# Altium schematic symbol library kmilo17pet-Maxim_Sensors.SchLib: 1172 symbols (part 45 of 61)
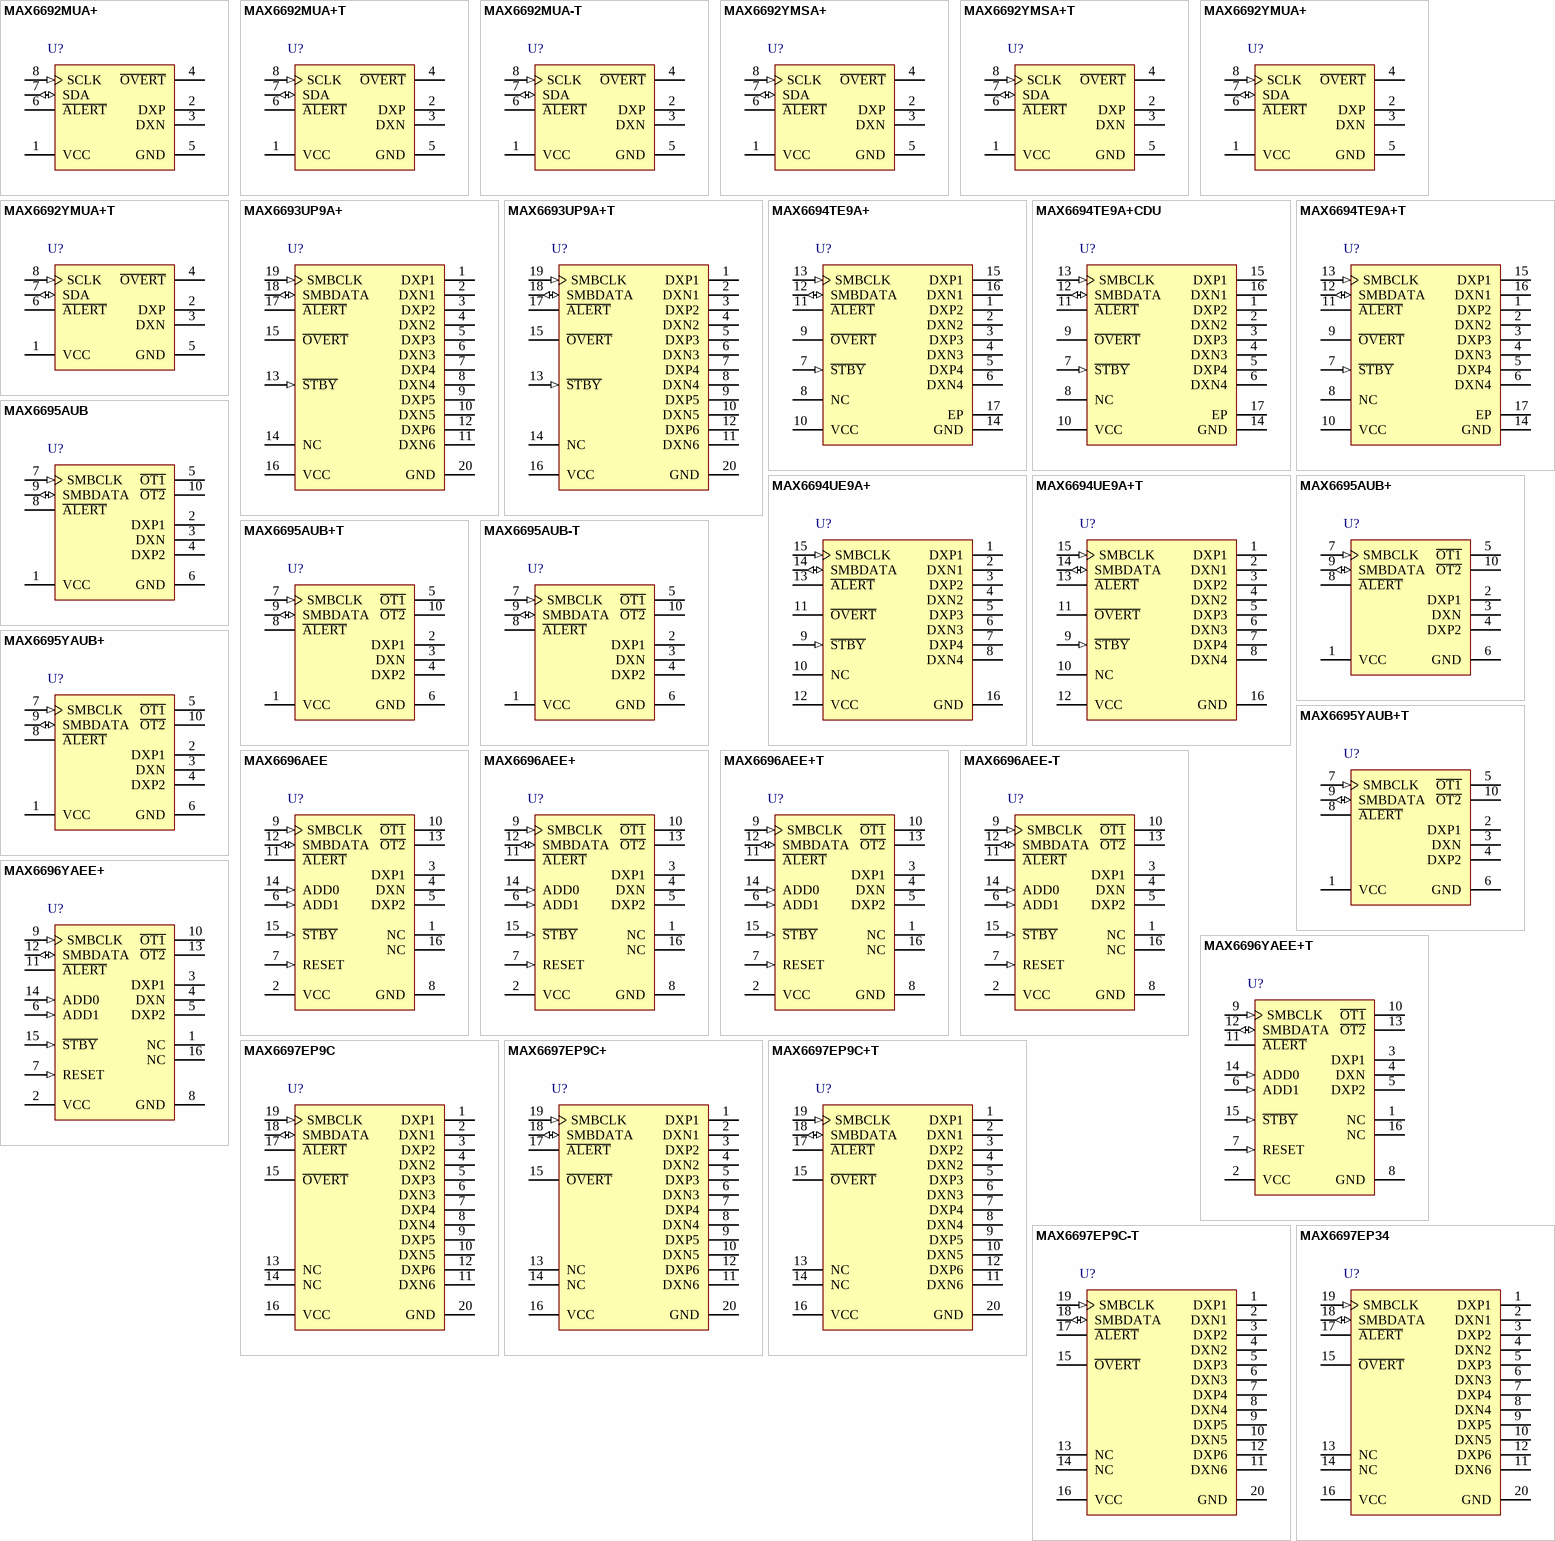
[diagram p77: symbols MAX6692MUA+ to MAX6697EP34]

## MAX6692YMSA+
designator U?
+ / -0.8 degC, SMBus-Compatible Remote / Local Temperature Sensor with Overtemperature Alarm, 10 Bits Temperature Resolution, -55 to 125 degC, 8-Pin SOIC (S8+4), Pb-Free; Generic Part Number: MAX6692; PartNumber: MAX6692YMSA+; Alarm Output: Alert, Overt; Functions: Dual Temperature Alarms, Remote & Local Sensor; Interface: 2-Wire/I2C/SMBus; Parasite Pwr.: No; DatasheetVersion: Rev. 4; PackageVersion: Rev. D, 10/2012; PackageReference: S8+4; PackageDescription: 8-Pin Small-Outline IC, Narrow, Body 3.9 x 4.9 mm, Pitch 1.27 mm; Supplier 1: Digi-Key; Supplier Part Number 1: MAX6692YMSA+-ND; Mounting Technology: Surface Mount; Code_JEDEC: MS-012; ComponentLink1Description: Manufacturer URL; ComponentLink1URL: http://www.maximintegrated.com/; ComponentLink2Description: Datasheet; ComponentLink2URL: http://datasheets.maximintegrated.com/en/ds/MAX6648-MAX6692.pdf; ComponentLink3Description: Package Specification; ComponentLink3URL: http://pdfserv.maximintegrated.com/package_dwgs/21-0041.PDF
footprint MAXM-S8+4_N (SOIC, 8-Leads, Body 4.9x3.9mm, Pitch 1.27mm, IPC Medium Density)
footprint MAXM-S8+4_L (SOIC, 8-Leads, Body 4.9x3.9mm, Pitch 1.27mm, IPC High Density)
footprint MAXM-S8+4_M (SOIC, 8-Leads, Body 4.9x3.9mm, Pitch 1.27mm, IPC Low Density)
pins: 1 VCC (power) "Supply Voltage Input, 3V to 5.5V. Bypass VCC to GND with a 0.1uF capacitor. A 200ohm series resistor is recommended but not required for additional noise filtering", 2 DXP "Combined Remote-Diode Current Source and A/D Positive Input for Remote-Diode Channel. DO NOT LEAVE DXP UNCONNECTED; connect DXP to DXN if no remote diode is used. Place a 2200pF capacitor between DXP and DXN for noise (See Datasheet)", 3 DXN "Combined Remote-Diode Current Sink and A/D Negative Input. DXN is internally connected to ground.", 4 ~{OVERT} (oc) "Overtemperature Alert/Interrupt Output, Open Drain. O\V\E\R\T\ is logic low when the temperature is above the software-programmed threshold", 5 GND (power) "Ground", 6 ~{ALERT} (oc) "SMBus Alert (Interrupt) Output, Open Drain. A\L\E\R\T\ asserts when temperature exceeds limits (high or low temperature). A\L\E\R\T\ stays asserted until acknowledged by either reading the status register or by successfully (See Datasheet)", 7 SDA (io) "SMBus Serial-Data Input/Output, Open Drain", 8 SCLK (in) "SMBus Serial-Clock Input"

## MAX6692YMSA+T
designator U?
+ / -0.8 degC, SMBus-Compatible Remote / Local Temperature Sensor with Overtemperature Alarm, 10 Bits Temperature Resolution, -55 to 125 degC, 8-Pin SOIC (S8+4), Pb-Free, Tape and Reel; Generic Part Number: MAX6692; PartNumber: MAX6692YMSA+T; Alarm Output: Alert, Overt; Functions: Dual Temperature Alarms, Remote & Local Sensor; Interface: 2-Wire/I2C/SMBus; Parasite Pwr.: No; DatasheetVersion: Rev. 4; PackageVersion: Rev. D, 10/2012; PackageReference: S8+4; PackageDescription: 8-Pin Small-Outline IC, Narrow, Body 3.9 x 4.9 mm, Pitch 1.27 mm; Supplier 1: Digi-Key; Supplier Part Number 1: MAX6692YMSA+T-ND; Packing: Tape and Reel; Mounting Technology: Surface Mount; Code_JEDEC: MS-012; ComponentLink1Description: Manufacturer URL; ComponentLink1URL: http://www.maximintegrated.com/; ComponentLink2Description: Datasheet; ComponentLink2URL: http://datasheets.maximintegrated.com/en/ds/MAX6648-MAX6692.pdf; ComponentLink3Description: Package Specification; ComponentLink3URL: http://pdfserv.maximintegrated.com/package_dwgs/21-0041.PDF
footprint MAXM-S8+4_N (SOIC, 8-Leads, Body 4.9x3.9mm, Pitch 1.27mm, IPC Medium Density)
footprint MAXM-S8+4_L (SOIC, 8-Leads, Body 4.9x3.9mm, Pitch 1.27mm, IPC High Density)
footprint MAXM-S8+4_M (SOIC, 8-Leads, Body 4.9x3.9mm, Pitch 1.27mm, IPC Low Density)
pins: 1 VCC (power) "Supply Voltage Input, 3V to 5.5V. Bypass VCC to GND with a 0.1uF capacitor. A 200ohm series resistor is recommended but not required for additional noise filtering", 2 DXP "Combined Remote-Diode Current Source and A/D Positive Input for Remote-Diode Channel. DO NOT LEAVE DXP UNCONNECTED; connect DXP to DXN if no remote diode is used. Place a 2200pF capacitor between DXP and DXN for noise (See Datasheet)", 3 DXN "Combined Remote-Diode Current Sink and A/D Negative Input. DXN is internally connected to ground.", 4 ~{OVERT} (oc) "Overtemperature Alert/Interrupt Output, Open Drain. O\V\E\R\T\ is logic low when the temperature is above the software-programmed threshold", 5 GND (power) "Ground", 6 ~{ALERT} (oc) "SMBus Alert (Interrupt) Output, Open Drain. A\L\E\R\T\ asserts when temperature exceeds limits (high or low temperature). A\L\E\R\T\ stays asserted until acknowledged by either reading the status register or by successfully (See Datasheet)", 7 SDA (io) "SMBus Serial-Data Input/Output, Open Drain", 8 SCLK (in) "SMBus Serial-Clock Input"

## MAX6692YMUA+
designator U?
+ / -0.8 degC, SMBus-Compatible Remote / Local Temperature Sensor with Overtemperature Alarm, 10 Bits Temperature Resolution, -55 to 125 degC, 8-Pin SOP (U8+1), Pb-Free; Generic Part Number: MAX6692; PartNumber: MAX6692YMUA+; Alarm Output: Alert, Overt; Functions: Dual Temperature Alarms, Remote & Local Sensor; Interface: 2-Wire/I2C/SMBus; Parasite Pwr.: No; DatasheetVersion: Rev. 4; PackageVersion: Rev. L, 08/2009; PackageReference: U8+1; PackageDescription: 8-Pin Micro-MAX, Thin Shrink Small-Outline (U8+1), Body 3 x 3 mm, Pitch 0.65 mm; Supplier 1: Digi-Key; Supplier Part Number 1: MAX6692YMUA+-ND; Mounting Technology: Surface Mount; Code_JEDEC: MO-187; ComponentLink1Description: Manufacturer URL; ComponentLink1URL: http://www.maximintegrated.com/; ComponentLink2Description: Datasheet; ComponentLink2URL: http://datasheets.maximintegrated.com/en/ds/MAX6648-MAX6692.pdf; ComponentLink3Description: Package Specification; ComponentLink3URL: http://pdfserv.maximintegrated.com/package_dwgs/21-0036.PDF
footprint MAXM-U8+1_N (SOP, 8-Leads, Body 3x3mm, Pitch 0.65mm, IPC Medium Density)
footprint MAXM-U8+1_L (SOP, 8-Leads, Body 3x3mm, Pitch 0.65mm, IPC High Density)
footprint MAXM-U8+1_M (SOP, 8-Leads, Body 3x3mm, Pitch 0.65mm, IPC Low Density)
pins: 1 VCC (power) "Supply Voltage Input, 3V to 5.5V. Bypass VCC to GND with a 0.1uF capacitor. A 200ohm series resistor is recommended but not required for additional noise filtering", 2 DXP "Combined Remote-Diode Current Source and A/D Positive Input for Remote-Diode Channel. DO NOT LEAVE DXP UNCONNECTED; connect DXP to DXN if no remote diode is used. Place a 2200pF capacitor between DXP and DXN for noise (See Datasheet)", 3 DXN "Combined Remote-Diode Current Sink and A/D Negative Input. DXN is internally connected to ground.", 4 ~{OVERT} (oc) "Overtemperature Alert/Interrupt Output, Open Drain. O\V\E\R\T\ is logic low when the temperature is above the software-programmed threshold", 5 GND (power) "Ground", 6 ~{ALERT} (oc) "SMBus Alert (Interrupt) Output, Open Drain. A\L\E\R\T\ asserts when temperature exceeds limits (high or low temperature). A\L\E\R\T\ stays asserted until acknowledged by either reading the status register or by successfully (See Datasheet)", 7 SDA (io) "SMBus Serial-Data Input/Output, Open Drain", 8 SCLK (in) "SMBus Serial-Clock Input"

## MAX6692YMUA+T
designator U?
+ / -0.8 degC, SMBus-Compatible Remote / Local Temperature Sensor with Overtemperature Alarm, 10 Bits Temperature Resolution, -55 to 125 degC, 8-Pin SOP (U8+1), Pb-Free, Tape and Reel; Generic Part Number: MAX6692; PartNumber: MAX6692YMUA+T; Alarm Output: Alert, Overt; Functions: Dual Temperature Alarms, Remote & Local Sensor; Interface: 2-Wire/I2C/SMBus; Parasite Pwr.: No; DatasheetVersion: Rev. 4; PackageVersion: Rev. L, 08/2009; PackageReference: U8+1; PackageDescription: 8-Pin Micro-MAX, Thin Shrink Small-Outline (U8+1), Body 3 x 3 mm, Pitch 0.65 mm; Supplier 1: Digi-Key; Supplier Part Number 1: MAX6692YMUA+T-ND; Packing: Tape and Reel; Mounting Technology: Surface Mount; Code_JEDEC: MO-187; ComponentLink1Description: Manufacturer URL; ComponentLink1URL: http://www.maximintegrated.com/; ComponentLink2Description: Datasheet; ComponentLink2URL: http://datasheets.maximintegrated.com/en/ds/MAX6648-MAX6692.pdf; ComponentLink3Description: Package Specification; ComponentLink3URL: http://pdfserv.maximintegrated.com/package_dwgs/21-0036.PDF
footprint MAXM-U8+1_N (SOP, 8-Leads, Body 3x3mm, Pitch 0.65mm, IPC Medium Density)
footprint MAXM-U8+1_L (SOP, 8-Leads, Body 3x3mm, Pitch 0.65mm, IPC High Density)
footprint MAXM-U8+1_M (SOP, 8-Leads, Body 3x3mm, Pitch 0.65mm, IPC Low Density)
pins: 1 VCC (power) "Supply Voltage Input, 3V to 5.5V. Bypass VCC to GND with a 0.1uF capacitor. A 200ohm series resistor is recommended but not required for additional noise filtering", 2 DXP "Combined Remote-Diode Current Source and A/D Positive Input for Remote-Diode Channel. DO NOT LEAVE DXP UNCONNECTED; connect DXP to DXN if no remote diode is used. Place a 2200pF capacitor between DXP and DXN for noise (See Datasheet)", 3 DXN "Combined Remote-Diode Current Sink and A/D Negative Input. DXN is internally connected to ground.", 4 ~{OVERT} (oc) "Overtemperature Alert/Interrupt Output, Open Drain. O\V\E\R\T\ is logic low when the temperature is above the software-programmed threshold", 5 GND (power) "Ground", 6 ~{ALERT} (oc) "SMBus Alert (Interrupt) Output, Open Drain. A\L\E\R\T\ asserts when temperature exceeds limits (high or low temperature). A\L\E\R\T\ stays asserted until acknowledged by either reading the status register or by successfully (See Datasheet)", 7 SDA (io) "SMBus Serial-Data Input/Output, Open Drain", 8 SCLK (in) "SMBus Serial-Clock Input"

## MAX6693UP9A+
designator U?
7-Channel Precision Temperature Monitor with Beta Compensation, 8, 11 Bits Temperature Resolution, -40 to 125 degC, 20-Pin SOP (U20+2), Pb-Free; Generic Part Number: MAX6693; PartNumber: MAX6693UP9A+; Alarm Output: Alert, Overt; Functions: Beta Compensation, Dual Temperature Alarms, Dual Temperature Sensor, Remote & Local Sensor; Interface: 2-Wire/I2C/SMBus; Parasite Pwr.: No; DatasheetVersion: Rev. 0; PackageVersion: Rev. L, 07/2010; PackageReference: U20+2; PackageDescription: 20-Pin Thin Shrink Small-Outline Package, Body 4.4 x 6.5 mm, Pitch 0.65 mm; Supplier 1: Digi-Key; Supplier Part Number 1: MAX6693UP9A+-ND; Mounting Technology: Surface Mount; Code_JEDEC: MO-153; ComponentLink1Description: Manufacturer URL; ComponentLink1URL: http://www.maximintegrated.com/; ComponentLink2Description: Datasheet; ComponentLink2URL: http://datasheets.maximintegrated.com/en/ds/MAX6693.pdf; ComponentLink3Description: Package Specification; ComponentLink3URL: http://pdfserv.maximintegrated.com/package_dwgs/21-0066.PDF
footprint MAXM-U20+2_N (SOP, 20-Leads, Body 6.5x4.4mm, Pitch 0.65mm, IPC Medium Density)
footprint MAXM-U20+2_L (SOP, 20-Leads, Body 6.5x4.4mm, Pitch 0.65mm, IPC High Density)
footprint MAXM-U20+2_M (SOP, 20-Leads, Body 6.5x4.4mm, Pitch 0.65mm, IPC Low Density)
pins: 1 DXP1 "Combined Current Source and A/D Positive Input for Channel 1 Remote Diode. Connect to the anode of a remote-diode-connected temperature-sensing transistor. Leave floating or connect to VCC if no remote diode is used. Place a (See Datasheet)", 2 DXN1 "Cathode Input for Channel 1 Remote Diode. Connect the cathode of the channel 1 remote-diode-connected transistor to DXN1. Internally connected to GND.", 3 DXP2 "Combined Current Source and A/D Positive Input for Channel 2 Remote Diode. Connect to the anode of a remote-diode-connected temperature-sensing transistor. Leave floating or connect to VCC if no remote diode is used. Place a (See Datasheet)", 4 DXN2 "Cathode Input for Channel 2 Remote Diode. Connect the cathode of the channel 2 remote-diode-connected transistor to DXN2.", 5 DXP3 "Combined Current Source and A/D Positive Input for Channel 3 Remote Diode. Connect to the anode of a remote-diode-connected temperature-sensing transistor. Leave floating or connect to VCC if no remote diode is used. Place a (See Datasheet)", 6 DXN3 "Cathode Input for Channel 3 Remote Diode. Connect the cathode of the channel 3 remote-diode-connected transistor to DXN3.", 7 DXP4 "Combined Current Source and A/D Positive Input for Channel 4 Remote Diode. Connect to the anode of a remote-diode-connected temperature-sensing transistor. Leave floating or connect to VCC if no remote diode is used. Place a (See Datasheet)", 8 DXN4 "Cathode Input for Channel 4 Remote Diode. Connect the cathode of the channel 4 remote-diode-connected transistor to DXN4.", 9 DXP5 "Combined Current Source and A/D Positive Input for Channel 5 Remote Diode. Connect to the anode of a remote-diode-connected temperature-sensing transistor. Leave floating or connect to VCC if no remote diode is used. Place a (See Datasheet)", 10 DXN5 "Cathode Input for Channel 5 Remote Diode. Connect the cathode of the channel 5 remote-diode-connected transistor to DXN5.", 11 DXN6 "Cathode Input for Channel 6 Remote Diode. Connect the cathode of the channel 6 remote-diode-connected transistor to DXN6.", 12 DXP6 "Combined Current Source and A/D Positive Input for Channel 6 Remote Diode. Connect to the anode of a remote-diode-connected temperature-sensing transistor. Leave floating or connect to VCC if no remote diode is used. Place a (See Datasheet)", 13 ~{STBY} (in) "Active-Low Standby Input. Drive S\T\B\Y\ logic-low to place the MAX6636 in standby mode, or logic-high for operate mode. Temperature and threshold data are retained in standby mode.", 14 NC "No Connection. Must be connected to ground.", 15 ~{OVERT} (oc) "Overtemperature Active-Low, Open-Drain Output. O\V\E\R\T\ asserts low when the temperature of channels 1, 4, 5, and 6 exceeds the programmed threshold limit.", 16 VCC (power) "Supply Voltage Input. Bypass to GND with a 0.1µF capacitor.", 17 ~{ALERT} (oc) "SMBus Alert (Interrupt), Active-Low, Open-Drain Output. A\L\E\R\T\ asserts low when the temperature of any channel exceeds the programmed A\L\E\R\T\ threshold.", 18 SMBDATA (io) "SMBus Serial-Data Input/Output. Connect to a pullup resistor.", 19 SMBCLK (in) "SMBus Serial-Clock Input. Connect to a pullup resistor.", 20 GND (power) "Ground"

## MAX6693UP9A+T
designator U?
7-Channel Precision Temperature Monitor with Beta Compensation, 8, 11 Bits Temperature Resolution, -40 to 125 degC, 20-Pin SOP (U20+2), Pb-Free, Tape and Reel; Generic Part Number: MAX6693; PartNumber: MAX6693UP9A+T; Alarm Output: Alert, Overt; Functions: Beta Compensation, Dual Temperature Alarms, Dual Temperature Sensor, Remote & Local Sensor; Interface: 2-Wire/I2C/SMBus; Parasite Pwr.: No; DatasheetVersion: Rev. 0; PackageVersion: Rev. L, 07/2010; PackageReference: U20+2; PackageDescription: 20-Pin Thin Shrink Small-Outline Package, Body 4.4 x 6.5 mm, Pitch 0.65 mm; Supplier 1: Digi-Key; Supplier Part Number 1: MAX6693UP9A+T-ND; Packing: Tape and Reel; Mounting Technology: Surface Mount; Code_JEDEC: MO-153; ComponentLink1Description: Manufacturer URL; ComponentLink1URL: http://www.maximintegrated.com/; ComponentLink2Description: Datasheet; ComponentLink2URL: http://datasheets.maximintegrated.com/en/ds/MAX6693.pdf; ComponentLink3Description: Package Specification; ComponentLink3URL: http://pdfserv.maximintegrated.com/package_dwgs/21-0066.PDF
footprint MAXM-U20+2_N (SOP, 20-Leads, Body 6.5x4.4mm, Pitch 0.65mm, IPC Medium Density)
footprint MAXM-U20+2_L (SOP, 20-Leads, Body 6.5x4.4mm, Pitch 0.65mm, IPC High Density)
footprint MAXM-U20+2_M (SOP, 20-Leads, Body 6.5x4.4mm, Pitch 0.65mm, IPC Low Density)
pins: 1 DXP1 "Combined Current Source and A/D Positive Input for Channel 1 Remote Diode. Connect to the anode of a remote-diode-connected temperature-sensing transistor. Leave floating or connect to VCC if no remote diode is used. Place a (See Datasheet)", 2 DXN1 "Cathode Input for Channel 1 Remote Diode. Connect the cathode of the channel 1 remote-diode-connected transistor to DXN1. Internally connected to GND.", 3 DXP2 "Combined Current Source and A/D Positive Input for Channel 2 Remote Diode. Connect to the anode of a remote-diode-connected temperature-sensing transistor. Leave floating or connect to VCC if no remote diode is used. Place a (See Datasheet)", 4 DXN2 "Cathode Input for Channel 2 Remote Diode. Connect the cathode of the channel 2 remote-diode-connected transistor to DXN2.", 5 DXP3 "Combined Current Source and A/D Positive Input for Channel 3 Remote Diode. Connect to the anode of a remote-diode-connected temperature-sensing transistor. Leave floating or connect to VCC if no remote diode is used. Place a (See Datasheet)", 6 DXN3 "Cathode Input for Channel 3 Remote Diode. Connect the cathode of the channel 3 remote-diode-connected transistor to DXN3.", 7 DXP4 "Combined Current Source and A/D Positive Input for Channel 4 Remote Diode. Connect to the anode of a remote-diode-connected temperature-sensing transistor. Leave floating or connect to VCC if no remote diode is used. Place a (See Datasheet)", 8 DXN4 "Cathode Input for Channel 4 Remote Diode. Connect the cathode of the channel 4 remote-diode-connected transistor to DXN4.", 9 DXP5 "Combined Current Source and A/D Positive Input for Channel 5 Remote Diode. Connect to the anode of a remote-diode-connected temperature-sensing transistor. Leave floating or connect to VCC if no remote diode is used. Place a (See Datasheet)", 10 DXN5 "Cathode Input for Channel 5 Remote Diode. Connect the cathode of the channel 5 remote-diode-connected transistor to DXN5.", 11 DXN6 "Cathode Input for Channel 6 Remote Diode. Connect the cathode of the channel 6 remote-diode-connected transistor to DXN6.", 12 DXP6 "Combined Current Source and A/D Positive Input for Channel 6 Remote Diode. Connect to the anode of a remote-diode-connected temperature-sensing transistor. Leave floating or connect to VCC if no remote diode is used. Place a (See Datasheet)", 13 ~{STBY} (in) "Active-Low Standby Input. Drive S\T\B\Y\ logic-low to place the MAX6636 in standby mode, or logic-high for operate mode. Temperature and threshold data are retained in standby mode.", 14 NC "No Connection. Must be connected to ground.", 15 ~{OVERT} (oc) "Overtemperature Active-Low, Open-Drain Output. O\V\E\R\T\ asserts low when the temperature of channels 1, 4, 5, and 6 exceeds the programmed threshold limit.", 16 VCC (power) "Supply Voltage Input. Bypass to GND with a 0.1µF capacitor.", 17 ~{ALERT} (oc) "SMBus Alert (Interrupt), Active-Low, Open-Drain Output. A\L\E\R\T\ asserts low when the temperature of any channel exceeds the programmed A\L\E\R\T\ threshold.", 18 SMBDATA (io) "SMBus Serial-Data Input/Output. Connect to a pullup resistor.", 19 SMBCLK (in) "SMBus Serial-Clock Input. Connect to a pullup resistor.", 20 GND (power) "Ground"

## MAX6694TE9A+
designator U?
5-Channel Precision Temperature Monitor with Beta Compensation, 8, 11 Bits Temperature Resolution, -40 to 125 degC, 16-Pin QFN (T1655+3), Pb-Free; Generic Part Number: MAX6694; PartNumber: MAX6694TE9A+; Alarm Output: Alert, Overt; Functions: Beta Compensation, Dual Temperature Alarms, Dual Temperature Sensor, Remote & Local Sensor; Interface: 2-Wire/I2C/SMBus; Parasite Pwr.: No; DatasheetVersion: Rev. 0; PackageVersion: Rev. Q, 09/2011; PackageReference: T1655+3; PackageDescription: 16-Pin Thin Quad Flatpack, No Leads, Body 5 x 5 mm, Pitch 0.8 mm; Supplier 1: Digi-Key; Supplier Part Number 1: MAX6694TE9A+-ND; Mounting Technology: Surface Mount; Code_JEDEC: MO220; ComponentLink1Description: Manufacturer URL; ComponentLink1URL: http://www.maximintegrated.com/; ComponentLink2Description: Datasheet; ComponentLink2URL: http://datasheets.maximintegrated.com/en/ds/MAX6694.pdf; ComponentLink3Description: Package Specification; ComponentLink3URL: http://pdfserv.maximintegrated.com/package_dwgs/21-0140.PDF
footprint MAXM-T1655+3_N (QFN, 16-Leads, Body 5x5mm, Pitch 0.8mm, Thermal Pad 3.1x3.1mm, IPC Medium Density)
footprint MAXM-T1655+3_L (QFN, 16-Leads, Body 5x5mm, Pitch 0.8mm, Thermal Pad 3.1x3.1mm, IPC High Density)
footprint MAXM-T1655+3_M (QFN, 16-Leads, Body 5x5mm, Pitch 0.8mm, Thermal Pad 3.1x3.1mm, IPC Low Density)
pins: 1 DXP2 "Combined Current Source and A/D Positive Input for Channel 2 Remote Diode. Connect to the anode of a remote-diode-connected temperature-sensing transistor. Leave unconnected or connect to VCC if no remote diode is used. (See Datasheet)", 2 DXN2 "Cathode Input for Channel 2 Remote Diode. Connect the cathode of the channel 2 remote-diode-connected transistor to DXN2.", 3 DXP3 "Combined Current Source and A/D Positive Input for Channel 3 Remote Diode. Connect to the anode of a remote-diode-connected temperature-sensing transistor. Leave unconnected or connect to VCC if no remote diode is used. (See Datasheet)", 4 DXN3 "Cathode Input for Channel 3 Remote Diode. Connect the cathode of the channel 3 remote-diode-connected transistor to DXN3.", 5 DXP4 "Combined Current Source and A/D Positive Input for Channel 4 Remote Diode. Connect to the anode of a remote-diode-connected temperature-sensing transistor. Leave unconnected or connect to VCC if no remote diode is used. (See Datasheet)", 6 DXN4 "Cathode Input for Channel 4 Remote Diode. Connect the cathode of the channel 4 remote-diode-connected transistor to DXN4.", 7 ~{STBY} (in) "Active-Low Standby Input. Drive S\T\B\Y\ low to place the MAX6694 in standby mode, or high for operate mode. Temperature and threshold data are retained in standby mode.", 8 NC "No Connection. Must be connected to ground.", 9 ~{OVERT} (oc) "Overtemperature Active-Low, Open-Drain Output. O\V\E\R\T\ asserts low when the temperature of channels 1 and 4 exceeds the programmed threshold limit.", 10 VCC (power) "Supply Voltage Input. Bypass to GND with a 0.1uF capacitor.", 11 ~{ALERT} (oc) "SMBus Alert (Interrupt), Active-Low, Open-Drain Output. A\L\E\R\T\ asserts low when the temperature of any channel exceeds the programmed A\L\E\R\T\ threshold.", 12 SMBDATA (io) "SMBus Serial Data Input/Output. Connect to a pullup resistor.", 13 SMBCLK (in) "SMBus Serial Clock Input. Connect to a pullup resistor.", 14 GND (power) "Ground", 15 DXP1 "Combined Current Source and A/D Positive Input for Channel 1 Remote Transistor. Connect to the emitter of a low beta transistor. Leave unconnected or connect to VCC if no remote transistor is used. Place a 100pF capacitor (See Datasheet)", 16 DXN1 "Base Input for Channel 1 Remote Diode. Connect to the base of a pnp temperature-sensing transistor.", 17 EP (power) "Exposed Pad. Connect to a large ground plane to maximize thermal performance. Not intended as an electrical connection point. (TQFN package only)."

## MAX6694TE9A+CDU
designator U?
5-Channel Precision Temperature Monitor with Beta Compensation, 8, 11 Bits Temperature Resolution, -40 to 125 degC, 16-Pin QFN (T1655+3), Pb-Free; Generic Part Number: MAX6694; PartNumber: MAX6694TE9A+CDU; Alarm Output: Alert, Overt; Functions: Beta Compensation, Dual Temperature Alarms, Dual Temperature Sensor, Remote & Local Sensor; Interface: 2-Wire/I2C/SMBus; Parasite Pwr.: No; DatasheetVersion: Rev. 0; PackageVersion: Rev. Q, 09/2011; PackageReference: T1655+3; PackageDescription: 16-Pin Thin Quad Flatpack, No Leads, Body 5 x 5 mm, Pitch 0.8 mm; Mounting Technology: Surface Mount; Code_JEDEC: MO220; ComponentLink1Description: Manufacturer URL; ComponentLink1URL: http://www.maximintegrated.com/; ComponentLink2Description: Datasheet; ComponentLink2URL: http://datasheets.maximintegrated.com/en/ds/MAX6694.pdf; ComponentLink3Description: Package Specification; ComponentLink3URL: http://pdfserv.maximintegrated.com/package_dwgs/21-0140.PDF
footprint MAXM-T1655+3_N (QFN, 16-Leads, Body 5x5mm, Pitch 0.8mm, Thermal Pad 3.1x3.1mm, IPC Medium Density)
footprint MAXM-T1655+3_L (QFN, 16-Leads, Body 5x5mm, Pitch 0.8mm, Thermal Pad 3.1x3.1mm, IPC High Density)
footprint MAXM-T1655+3_M (QFN, 16-Leads, Body 5x5mm, Pitch 0.8mm, Thermal Pad 3.1x3.1mm, IPC Low Density)
pins: 1 DXP2 "Combined Current Source and A/D Positive Input for Channel 2 Remote Diode. Connect to the anode of a remote-diode-connected temperature-sensing transistor. Leave unconnected or connect to VCC if no remote diode is used. (See Datasheet)", 2 DXN2 "Cathode Input for Channel 2 Remote Diode. Connect the cathode of the channel 2 remote-diode-connected transistor to DXN2.", 3 DXP3 "Combined Current Source and A/D Positive Input for Channel 3 Remote Diode. Connect to the anode of a remote-diode-connected temperature-sensing transistor. Leave unconnected or connect to VCC if no remote diode is used. (See Datasheet)", 4 DXN3 "Cathode Input for Channel 3 Remote Diode. Connect the cathode of the channel 3 remote-diode-connected transistor to DXN3.", 5 DXP4 "Combined Current Source and A/D Positive Input for Channel 4 Remote Diode. Connect to the anode of a remote-diode-connected temperature-sensing transistor. Leave unconnected or connect to VCC if no remote diode is used. (See Datasheet)", 6 DXN4 "Cathode Input for Channel 4 Remote Diode. Connect the cathode of the channel 4 remote-diode-connected transistor to DXN4.", 7 ~{STBY} (in) "Active-Low Standby Input. Drive S\T\B\Y\ low to place the MAX6694 in standby mode, or high for operate mode. Temperature and threshold data are retained in standby mode.", 8 NC "No Connection. Must be connected to ground.", 9 ~{OVERT} (oc) "Overtemperature Active-Low, Open-Drain Output. O\V\E\R\T\ asserts low when the temperature of channels 1 and 4 exceeds the programmed threshold limit.", 10 VCC (power) "Supply Voltage Input. Bypass to GND with a 0.1uF capacitor.", 11 ~{ALERT} (oc) "SMBus Alert (Interrupt), Active-Low, Open-Drain Output. A\L\E\R\T\ asserts low when the temperature of any channel exceeds the programmed A\L\E\R\T\ threshold.", 12 SMBDATA (io) "SMBus Serial Data Input/Output. Connect to a pullup resistor.", 13 SMBCLK (in) "SMBus Serial Clock Input. Connect to a pullup resistor.", 14 GND (power) "Ground", 15 DXP1 "Combined Current Source and A/D Positive Input for Channel 1 Remote Transistor. Connect to the emitter of a low beta transistor. Leave unconnected or connect to VCC if no remote transistor is used. Place a 100pF capacitor (See Datasheet)", 16 DXN1 "Base Input for Channel 1 Remote Diode. Connect to the base of a pnp temperature-sensing transistor.", 17 EP (power) "Exposed Pad. Connect to a large ground plane to maximize thermal performance. Not intended as an electrical connection point. (TQFN package only)."

## MAX6694TE9A+T
designator U?
5-Channel Precision Temperature Monitor with Beta Compensation, 8, 11 Bits Temperature Resolution, -40 to 125 degC, 16-Pin QFN (T1655+3), Pb-Free, Tape and Reel; Generic Part Number: MAX6694; PartNumber: MAX6694TE9A+T; Alarm Output: Alert, Overt; Functions: Beta Compensation, Dual Temperature Alarms, Dual Temperature Sensor, Remote & Local Sensor; Interface: 2-Wire/I2C/SMBus; Parasite Pwr.: No; DatasheetVersion: Rev. 0; PackageVersion: Rev. Q, 09/2011; PackageReference: T1655+3; PackageDescription: 16-Pin Thin Quad Flatpack, No Leads, Body 5 x 5 mm, Pitch 0.8 mm; Supplier 1: Digi-Key; Supplier Part Number 1: MAX6694TE9A+T-ND; Supplier 2: Mouser; Supplier Part Number 2: 700-MAX6694TE9AT; Packing: Tape and Reel; Mounting Technology: Surface Mount; Code_JEDEC: MO220; ComponentLink1Description: Manufacturer URL; ComponentLink1URL: http://www.maximintegrated.com/; ComponentLink2Description: Datasheet; ComponentLink2URL: http://datasheets.maximintegrated.com/en/ds/MAX6694.pdf; ComponentLink3Description: Package Specification; ComponentLink3URL: http://pdfserv.maximintegrated.com/package_dwgs/21-0140.PDF
footprint MAXM-T1655+3_N (QFN, 16-Leads, Body 5x5mm, Pitch 0.8mm, Thermal Pad 3.1x3.1mm, IPC Medium Density)
footprint MAXM-T1655+3_L (QFN, 16-Leads, Body 5x5mm, Pitch 0.8mm, Thermal Pad 3.1x3.1mm, IPC High Density)
footprint MAXM-T1655+3_M (QFN, 16-Leads, Body 5x5mm, Pitch 0.8mm, Thermal Pad 3.1x3.1mm, IPC Low Density)
pins: 1 DXP2 "Combined Current Source and A/D Positive Input for Channel 2 Remote Diode. Connect to the anode of a remote-diode-connected temperature-sensing transistor. Leave unconnected or connect to VCC if no remote diode is used. (See Datasheet)", 2 DXN2 "Cathode Input for Channel 2 Remote Diode. Connect the cathode of the channel 2 remote-diode-connected transistor to DXN2.", 3 DXP3 "Combined Current Source and A/D Positive Input for Channel 3 Remote Diode. Connect to the anode of a remote-diode-connected temperature-sensing transistor. Leave unconnected or connect to VCC if no remote diode is used. (See Datasheet)", 4 DXN3 "Cathode Input for Channel 3 Remote Diode. Connect the cathode of the channel 3 remote-diode-connected transistor to DXN3.", 5 DXP4 "Combined Current Source and A/D Positive Input for Channel 4 Remote Diode. Connect to the anode of a remote-diode-connected temperature-sensing transistor. Leave unconnected or connect to VCC if no remote diode is used. (See Datasheet)", 6 DXN4 "Cathode Input for Channel 4 Remote Diode. Connect the cathode of the channel 4 remote-diode-connected transistor to DXN4.", 7 ~{STBY} (in) "Active-Low Standby Input. Drive S\T\B\Y\ low to place the MAX6694 in standby mode, or high for operate mode. Temperature and threshold data are retained in standby mode.", 8 NC "No Connection. Must be connected to ground.", 9 ~{OVERT} (oc) "Overtemperature Active-Low, Open-Drain Output. O\V\E\R\T\ asserts low when the temperature of channels 1 and 4 exceeds the programmed threshold limit.", 10 VCC (power) "Supply Voltage Input. Bypass to GND with a 0.1uF capacitor.", 11 ~{ALERT} (oc) "SMBus Alert (Interrupt), Active-Low, Open-Drain Output. A\L\E\R\T\ asserts low when the temperature of any channel exceeds the programmed A\L\E\R\T\ threshold.", 12 SMBDATA (io) "SMBus Serial Data Input/Output. Connect to a pullup resistor.", 13 SMBCLK (in) "SMBus Serial Clock Input. Connect to a pullup resistor.", 14 GND (power) "Ground", 15 DXP1 "Combined Current Source and A/D Positive Input for Channel 1 Remote Transistor. Connect to the emitter of a low beta transistor. Leave unconnected or connect to VCC if no remote transistor is used. Place a 100pF capacitor (See Datasheet)", 16 DXN1 "Base Input for Channel 1 Remote Diode. Connect to the base of a pnp temperature-sensing transistor.", 17 EP (power) "Exposed Pad. Connect to a large ground plane to maximize thermal performance. Not intended as an electrical connection point. (TQFN package only)."

## MAX6694UE9A+
designator U?
5-Channel Precision Temperature Monitor with Beta Compensation, 8, 11 Bits Temperature Resolution, -40 to 125 degC, 16-Pin SOP (U16+1), Pb-Free; Generic Part Number: MAX6694; PartNumber: MAX6694UE9A+; Alarm Output: Alert, Overt; Functions: Beta Compensation, Dual Temperature Alarms, Dual Temperature Sensor, Remote & Local Sensor; Interface: 2-Wire/I2C/SMBus; Parasite Pwr.: No; DatasheetVersion: Rev. 0; PackageVersion: Rev. L, 07/2010; PackageReference: U16+1; PackageDescription: 16-Pin Thin Shrink Small-Outline Package (U16+1), Body 5 x 4.4 mm, Pitch 0.65 mm; Supplier 1: Digi-Key; Supplier Part Number 1: MAX6694UE9A+-ND; Supplier 2: Mouser; Supplier Part Number 2: 700-MAX6694UE9A; Mounting Technology: Surface Mount; Code_JEDEC: MO-153; ComponentLink1Description: Manufacturer URL; ComponentLink1URL: http://www.maximintegrated.com/; ComponentLink2Description: Datasheet; ComponentLink2URL: http://datasheets.maximintegrated.com/en/ds/MAX6694.pdf; ComponentLink3Description: Package Specification; ComponentLink3URL: http://pdfserv.maximintegrated.com/package_dwgs/21-0066.PDF
footprint MAXM-U16+1_N (SOP, 16-Leads, Body 5x4.4mm, Pitch 0.65mm, IPC Medium Density)
footprint MAXM-U16+1_L (SOP, 16-Leads, Body 5x4.4mm, Pitch 0.65mm, IPC High Density)
footprint MAXM-U16+1_M (SOP, 16-Leads, Body 5x4.4mm, Pitch 0.65mm, IPC Low Density)
pins: 1 DXP1 "Combined Current Source and A/D Positive Input for Channel 1 Remote Transistor. Connect to the emitter of a low beta transistor. Leave unconnected or connect to VCC if no remote transistor is used. Place a 100pF capacitor (See Datasheet)", 2 DXN1 "Base Input for Channel 1 Remote Diode. Connect to the base of a pnp temperature-sensing transistor.", 3 DXP2 "Combined Current Source and A/D Positive Input for Channel 2 Remote Diode. Connect to the anode of a remote-diode-connected temperature-sensing transistor. Leave unconnected or connect to VCC if no remote diode is used. (See Datasheet)", 4 DXN2 "Cathode Input for Channel 2 Remote Diode. Connect the cathode of the channel 2 remote-diode-connected transistor to DXN2.", 5 DXP3 "Combined Current Source and A/D Positive Input for Channel 3 Remote Diode. Connect to the anode of a remote-diode-connected temperature-sensing transistor. Leave unconnected or connect to VCC if no remote diode is used. (See Datasheet)", 6 DXN3 "Cathode Input for Channel 3 Remote Diode. Connect the cathode of the channel 3 remote-diode-connected transistor to DXN3.", 7 DXP4 "Combined Current Source and A/D Positive Input for Channel 4 Remote Diode. Connect to the anode of a remote-diode-connected temperature-sensing transistor. Leave unconnected or connect to VCC if no remote diode is used. (See Datasheet)", 8 DXN4 "Cathode Input for Channel 4 Remote Diode. Connect the cathode of the channel 4 remote-diode-connected transistor to DXN4.", 9 ~{STBY} (in) "Active-Low Standby Input. Drive S\T\B\Y\ low to place the MAX6694 in standby mode, or high for operate mode. Temperature and threshold data are retained in standby mode.", 10 NC "No Connection. Must be connected to ground.", 11 ~{OVERT} (oc) "Overtemperature Active-Low, Open-Drain Output. O\V\E\R\T\ asserts low when the temperature of channels 1 and 4 exceeds the programmed threshold limit.", 12 VCC (power) "Supply Voltage Input. Bypass to GND with a 0.1uF capacitor.", 13 ~{ALERT} (oc) "SMBus Alert (Interrupt), Active-Low, Open-Drain Output. A\L\E\R\T\ asserts low when the temperature of any channel exceeds the programmed A\L\E\R\T\ threshold.", 14 SMBDATA (io) "SMBus Serial Data Input/Output. Connect to a pullup resistor.", 15 SMBCLK (in) "SMBus Serial Clock Input. Connect to a pullup resistor.", 16 GND (power) "Ground"

## MAX6694UE9A+T
designator U?
5-Channel Precision Temperature Monitor with Beta Compensation, 8, 11 Bits Temperature Resolution, -40 to 125 degC, 16-Pin SOP (U16+1), Pb-Free, Tape and Reel; Generic Part Number: MAX6694; PartNumber: MAX6694UE9A+T; Alarm Output: Alert, Overt; Functions: Beta Compensation, Dual Temperature Alarms, Dual Temperature Sensor, Remote & Local Sensor; Interface: 2-Wire/I2C/SMBus; Parasite Pwr.: No; DatasheetVersion: Rev. 0; PackageVersion: Rev. L, 07/2010; PackageReference: U16+1; PackageDescription: 16-Pin Thin Shrink Small-Outline Package (U16+1), Body 5 x 4.4 mm, Pitch 0.65 mm; Supplier 1: Digi-Key; Supplier Part Number 1: MAX6694UE9A+T-ND; Supplier 2: Mouser; Supplier Part Number 2: 700-MAX6694UE9AT; Packing: Tape and Reel; Mounting Technology: Surface Mount; Code_JEDEC: MO-153; ComponentLink1Description: Manufacturer URL; ComponentLink1URL: http://www.maximintegrated.com/; ComponentLink2Description: Datasheet; ComponentLink2URL: http://datasheets.maximintegrated.com/en/ds/MAX6694.pdf; ComponentLink3Description: Package Specification; ComponentLink3URL: http://pdfserv.maximintegrated.com/package_dwgs/21-0066.PDF
footprint MAXM-U16+1_N (SOP, 16-Leads, Body 5x4.4mm, Pitch 0.65mm, IPC Medium Density)
footprint MAXM-U16+1_L (SOP, 16-Leads, Body 5x4.4mm, Pitch 0.65mm, IPC High Density)
footprint MAXM-U16+1_M (SOP, 16-Leads, Body 5x4.4mm, Pitch 0.65mm, IPC Low Density)
pins: 1 DXP1 "Combined Current Source and A/D Positive Input for Channel 1 Remote Transistor. Connect to the emitter of a low beta transistor. Leave unconnected or connect to VCC if no remote transistor is used. Place a 100pF capacitor (See Datasheet)", 2 DXN1 "Base Input for Channel 1 Remote Diode. Connect to the base of a pnp temperature-sensing transistor.", 3 DXP2 "Combined Current Source and A/D Positive Input for Channel 2 Remote Diode. Connect to the anode of a remote-diode-connected temperature-sensing transistor. Leave unconnected or connect to VCC if no remote diode is used. (See Datasheet)", 4 DXN2 "Cathode Input for Channel 2 Remote Diode. Connect the cathode of the channel 2 remote-diode-connected transistor to DXN2.", 5 DXP3 "Combined Current Source and A/D Positive Input for Channel 3 Remote Diode. Connect to the anode of a remote-diode-connected temperature-sensing transistor. Leave unconnected or connect to VCC if no remote diode is used. (See Datasheet)", 6 DXN3 "Cathode Input for Channel 3 Remote Diode. Connect the cathode of the channel 3 remote-diode-connected transistor to DXN3.", 7 DXP4 "Combined Current Source and A/D Positive Input for Channel 4 Remote Diode. Connect to the anode of a remote-diode-connected temperature-sensing transistor. Leave unconnected or connect to VCC if no remote diode is used. (See Datasheet)", 8 DXN4 "Cathode Input for Channel 4 Remote Diode. Connect the cathode of the channel 4 remote-diode-connected transistor to DXN4.", 9 ~{STBY} (in) "Active-Low Standby Input. Drive S\T\B\Y\ low to place the MAX6694 in standby mode, or high for operate mode. Temperature and threshold data are retained in standby mode.", 10 NC "No Connection. Must be connected to ground.", 11 ~{OVERT} (oc) "Overtemperature Active-Low, Open-Drain Output. O\V\E\R\T\ asserts low when the temperature of channels 1 and 4 exceeds the programmed threshold limit.", 12 VCC (power) "Supply Voltage Input. Bypass to GND with a 0.1uF capacitor.", 13 ~{ALERT} (oc) "SMBus Alert (Interrupt), Active-Low, Open-Drain Output. A\L\E\R\T\ asserts low when the temperature of any channel exceeds the programmed A\L\E\R\T\ threshold.", 14 SMBDATA (io) "SMBus Serial Data Input/Output. Connect to a pullup resistor.", 15 SMBCLK (in) "SMBus Serial Clock Input. Connect to a pullup resistor.", 16 GND (power) "Ground"

## MAX6695AUB
designator U?
Dual Remote Temperature Sensor with SMBus Interface, -40 to 125 degC, 10-Pin SOP (U10CN-1); Generic Part Number: MAX6695; PartNumber: MAX6695AUB; Alarm Output: Alert, Overt; Functions: Dual Temperature Monitor, Remote & Local Sensor; Interface: 2-Wire/I2C/SMBus; Parasite Pwr.: No; DatasheetVersion: Rev. 3; PackageVersion: Rev. L, 07/2008; PackageReference: U10CN-1; PackageDescription: 10-Pin Micro-MAX, Thin Shrink Small-Outline (U10CN-1), Body 3 x 3 mm, Pitch 0.5 mm; Supplier 1: Mouser; Supplier Part Number 1: N/A; Mounting Technology: Surface Mount; Code_JEDEC: MO-187; ComponentLink1Description: Manufacturer URL; ComponentLink1URL: http://www.maximintegrated.com/; ComponentLink2Description: Datasheet; ComponentLink2URL: http://datasheets.maximintegrated.com/en/ds/MAX6695-MAX6696.pdf; ComponentLink3Description: Package Specification; ComponentLink3URL: http://pdfserv.maximintegrated.com/package_dwgs/21-0061.PDF
footprint MAXM-U10CN-1_N (SOP, 10-Leads, Body 3x3mm, Pitch 0.5mm, IPC Medium Density)
footprint MAXM-U10CN-1_L (SOP, 10-Leads, Body 3x3mm, Pitch 0.5mm, IPC High Density)
footprint MAXM-U10CN-1_M (SOP, 10-Leads, Body 3x3mm, Pitch 0.5mm, IPC Low Density)
pins: 1 VCC (power) "Supply Voltage Input, +3V to +3.6V. Bypass to GND with a 0.1µF capacitor. A 47 ohm series resistor is recommended but not required for additional noise filtering. See Typical Operating Circuit.", 2 DXP1 "Combined Remote-Diode Current Source and A/D Positive Input for Remote-Diode Channel 1. DO NOT LEAVE DXP1 UNCONNECTED; connect DXP1 to DXN if no remote diode is used. Place a 2200pF capacitor between DXP1 and DXN for noise (See Datasheet)", 3 DXN "Combined Remote-Diode Current Sink and A/D Negative Input. DXN is internally biased to one diode drop above ground.", 4 DXP2 "Combined Remote-Diode Current Source and A/D Positive Input for Remote-Diode Channel 2. DO NOT LEAVE DXP2 UNCONNECTED; connect DXP2 to DXN if no remote diode is used. Place a 2200pF capacitor between DXP2 and DXN for noise (See Datasheet)", 5 ~{OT1} (oc) "Overtemperature Active-Low Output, Open Drain. O\T\1\ is asserted low only when the temperature is above the programmed OT1 threshold.", 6 GND (power) "Ground", 7 SMBCLK (in) "SMBus Serial-Clock Input", 8 ~{ALERT} (oc) "SMBus Alert (Interrupt) Active-Low Output, Open-Drain. Asserts when temperature exceeds user-set limits (high or low temperature) or when a remote sensor opens. Stays asserted until acknowledged by either reading the status (See Datasheet)", 9 SMBDATA (io) "SMBus Serial-Data Input/Output, Open Drain", 10 ~{OT2} (oc) "Overtemperature Active-Low Output, Open Drain. O\T\2\ is asserted low only when temperature is above the programmed OT2 threshold."

## MAX6695AUB+
designator U?
Dual Remote Temperature Sensor with SMBus Interface, -40 to 125 degC, 10-Pin SOP (U10CN1), Pb-Free; Generic Part Number: MAX6695; PartNumber: MAX6695AUB+; Alarm Output: Alert, Overt; Functions: Dual Temperature Monitor, Remote & Local Sensor; Interface: 2-Wire/I2C/SMBus; Parasite Pwr.: No; DatasheetVersion: Rev. 3; PackageVersion: Rev. L, 07/2008; PackageReference: U10CN+1; PackageDescription: 10-Pin Micro-MAX, Thin Shrink Small-Outline (U10CN+1), Body 3 x 3 mm, Pitch 0.5 mm; Supplier 1: Digi-Key; Supplier Part Number 1: MAX6695AUB+-ND; Supplier 2: Mouser; Supplier Part Number 2: 700-MAX6695AUB; Mounting Technology: Surface Mount; Code_JEDEC: MO-187; ComponentLink1Description: Manufacturer URL; ComponentLink1URL: http://www.maximintegrated.com/; ComponentLink2Description: Datasheet; ComponentLink2URL: http://datasheets.maximintegrated.com/en/ds/MAX6695-MAX6696.pdf; ComponentLink3Description: Package Specification; ComponentLink3URL: http://pdfserv.maximintegrated.com/package_dwgs/21-0061.PDF
footprint MAXM-U10CN+1_N (SOP, 10-Leads, Body 3x3mm, Pitch 0.5mm, IPC Medium Density)
footprint MAXM-U10CN+1_L (SOP, 10-Leads, Body 3x3mm, Pitch 0.5mm, IPC High Density)
footprint MAXM-U10CN+1_M (SOP, 10-Leads, Body 3x3mm, Pitch 0.5mm, IPC Low Density)
pins: 1 VCC (power) "Supply Voltage Input, +3V to +3.6V. Bypass to GND with a 0.1µF capacitor. A 47 ohm series resistor is recommended but not required for additional noise filtering. See Typical Operating Circuit.", 2 DXP1 "Combined Remote-Diode Current Source and A/D Positive Input for Remote-Diode Channel 1. DO NOT LEAVE DXP1 UNCONNECTED; connect DXP1 to DXN if no remote diode is used. Place a 2200pF capacitor between DXP1 and DXN for noise (See Datasheet)", 3 DXN "Combined Remote-Diode Current Sink and A/D Negative Input. DXN is internally biased to one diode drop above ground.", 4 DXP2 "Combined Remote-Diode Current Source and A/D Positive Input for Remote-Diode Channel 2. DO NOT LEAVE DXP2 UNCONNECTED; connect DXP2 to DXN if no remote diode is used. Place a 2200pF capacitor between DXP2 and DXN for noise (See Datasheet)", 5 ~{OT1} (oc) "Overtemperature Active-Low Output, Open Drain. O\T\1\ is asserted low only when the temperature is above the programmed OT1 threshold.", 6 GND (power) "Ground", 7 SMBCLK (in) "SMBus Serial-Clock Input", 8 ~{ALERT} (oc) "SMBus Alert (Interrupt) Active-Low Output, Open-Drain. Asserts when temperature exceeds user-set limits (high or low temperature) or when a remote sensor opens. Stays asserted until acknowledged by either reading the status (See Datasheet)", 9 SMBDATA (io) "SMBus Serial-Data Input/Output, Open Drain", 10 ~{OT2} (oc) "Overtemperature Active-Low Output, Open Drain. O\T\2\ is asserted low only when temperature is above the programmed OT2 threshold."

## MAX6695AUB+T
designator U?
Dual Remote Temperature Sensor with SMBus Interface, -40 to 125 degC, 10-Pin SOP (U10CN1), Pb-Free, Tape and Reel; Generic Part Number: MAX6695; PartNumber: MAX6695AUB+T; Alarm Output: Alert, Overt; Functions: Dual Temperature Monitor, Remote & Local Sensor; Interface: 2-Wire/I2C/SMBus; Parasite Pwr.: No; DatasheetVersion: Rev. 3; PackageVersion: Rev. L, 07/2008; PackageReference: U10CN+1; PackageDescription: 10-Pin Micro-MAX, Thin Shrink Small-Outline (U10CN+1), Body 3 x 3 mm, Pitch 0.5 mm; Supplier 1: Digi-Key; Supplier Part Number 1: MAX6695AUB+T-ND; Supplier 2: Mouser; Supplier Part Number 2: 700-MAX6695AUBT; Packing: Tape and Reel; Mounting Technology: Surface Mount; Code_JEDEC: MO-187; ComponentLink1Description: Manufacturer URL; ComponentLink1URL: http://www.maximintegrated.com/; ComponentLink2Description: Datasheet; ComponentLink2URL: http://datasheets.maximintegrated.com/en/ds/MAX6695-MAX6696.pdf; ComponentLink3Description: Package Specification; ComponentLink3URL: http://pdfserv.maximintegrated.com/package_dwgs/21-0061.PDF
footprint MAXM-U10CN+1_N (SOP, 10-Leads, Body 3x3mm, Pitch 0.5mm, IPC Medium Density)
footprint MAXM-U10CN+1_L (SOP, 10-Leads, Body 3x3mm, Pitch 0.5mm, IPC High Density)
footprint MAXM-U10CN+1_M (SOP, 10-Leads, Body 3x3mm, Pitch 0.5mm, IPC Low Density)
pins: 1 VCC (power) "Supply Voltage Input, +3V to +3.6V. Bypass to GND with a 0.1µF capacitor. A 47 ohm series resistor is recommended but not required for additional noise filtering. See Typical Operating Circuit.", 2 DXP1 "Combined Remote-Diode Current Source and A/D Positive Input for Remote-Diode Channel 1. DO NOT LEAVE DXP1 UNCONNECTED; connect DXP1 to DXN if no remote diode is used. Place a 2200pF capacitor between DXP1 and DXN for noise (See Datasheet)", 3 DXN "Combined Remote-Diode Current Sink and A/D Negative Input. DXN is internally biased to one diode drop above ground.", 4 DXP2 "Combined Remote-Diode Current Source and A/D Positive Input for Remote-Diode Channel 2. DO NOT LEAVE DXP2 UNCONNECTED; connect DXP2 to DXN if no remote diode is used. Place a 2200pF capacitor between DXP2 and DXN for noise (See Datasheet)", 5 ~{OT1} (oc) "Overtemperature Active-Low Output, Open Drain. O\T\1\ is asserted low only when the temperature is above the programmed OT1 threshold.", 6 GND (power) "Ground", 7 SMBCLK (in) "SMBus Serial-Clock Input", 8 ~{ALERT} (oc) "SMBus Alert (Interrupt) Active-Low Output, Open-Drain. Asserts when temperature exceeds user-set limits (high or low temperature) or when a remote sensor opens. Stays asserted until acknowledged by either reading the status (See Datasheet)", 9 SMBDATA (io) "SMBus Serial-Data Input/Output, Open Drain", 10 ~{OT2} (oc) "Overtemperature Active-Low Output, Open Drain. O\T\2\ is asserted low only when temperature is above the programmed OT2 threshold."

## MAX6695AUB-T
designator U?
Dual Remote Temperature Sensor with SMBus Interface, -40 to 125 degC, 10-Pin SOP (U10CN-1), Tape and Reel; Generic Part Number: MAX6695; PartNumber: MAX6695AUB-T; Alarm Output: Alert, Overt; Functions: Dual Temperature Monitor, Remote & Local Sensor; Interface: 2-Wire/I2C/SMBus; Parasite Pwr.: No; DatasheetVersion: Rev. 3; PackageVersion: Rev. L, 07/2008; PackageReference: U10CN-1; PackageDescription: 10-Pin Micro-MAX, Thin Shrink Small-Outline (U10CN-1), Body 3 x 3 mm, Pitch 0.5 mm; Supplier 1: Mouser; Supplier Part Number 1: N/A; Packing: Tape and Reel; Mounting Technology: Surface Mount; Code_JEDEC: MO-187; ComponentLink1Description: Manufacturer URL; ComponentLink1URL: http://www.maximintegrated.com/; ComponentLink2Description: Datasheet; ComponentLink2URL: http://datasheets.maximintegrated.com/en/ds/MAX6695-MAX6696.pdf; ComponentLink3Description: Package Specification; ComponentLink3URL: http://pdfserv.maximintegrated.com/package_dwgs/21-0061.PDF
footprint MAXM-U10CN-1_N (SOP, 10-Leads, Body 3x3mm, Pitch 0.5mm, IPC Medium Density)
footprint MAXM-U10CN-1_L (SOP, 10-Leads, Body 3x3mm, Pitch 0.5mm, IPC High Density)
footprint MAXM-U10CN-1_M (SOP, 10-Leads, Body 3x3mm, Pitch 0.5mm, IPC Low Density)
pins: 1 VCC (power) "Supply Voltage Input, +3V to +3.6V. Bypass to GND with a 0.1µF capacitor. A 47 ohm series resistor is recommended but not required for additional noise filtering. See Typical Operating Circuit.", 2 DXP1 "Combined Remote-Diode Current Source and A/D Positive Input for Remote-Diode Channel 1. DO NOT LEAVE DXP1 UNCONNECTED; connect DXP1 to DXN if no remote diode is used. Place a 2200pF capacitor between DXP1 and DXN for noise (See Datasheet)", 3 DXN "Combined Remote-Diode Current Sink and A/D Negative Input. DXN is internally biased to one diode drop above ground.", 4 DXP2 "Combined Remote-Diode Current Source and A/D Positive Input for Remote-Diode Channel 2. DO NOT LEAVE DXP2 UNCONNECTED; connect DXP2 to DXN if no remote diode is used. Place a 2200pF capacitor between DXP2 and DXN for noise (See Datasheet)", 5 ~{OT1} (oc) "Overtemperature Active-Low Output, Open Drain. O\T\1\ is asserted low only when the temperature is above the programmed OT1 threshold.", 6 GND (power) "Ground", 7 SMBCLK (in) "SMBus Serial-Clock Input", 8 ~{ALERT} (oc) "SMBus Alert (Interrupt) Active-Low Output, Open-Drain. Asserts when temperature exceeds user-set limits (high or low temperature) or when a remote sensor opens. Stays asserted until acknowledged by either reading the status (See Datasheet)", 9 SMBDATA (io) "SMBus Serial-Data Input/Output, Open Drain", 10 ~{OT2} (oc) "Overtemperature Active-Low Output, Open Drain. O\T\2\ is asserted low only when temperature is above the programmed OT2 threshold."